# Altium integrated library HSEC8-120-01-S-RA.IntLib: 1 symbol
Pins are listed as number, name and electrical type; pins without a type are passive.

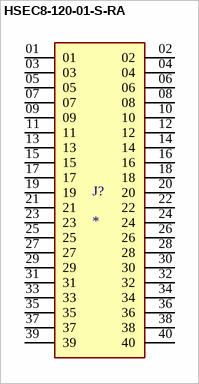
[diagram p0: symbol HSEC8-120-01-S-RA]

## HSEC8-120-01-S-RA
designator J?
MP: HSEC8-120-01-S-RA; Value: *; Package: None; Price: None; Availability: Unavailable
footprint SAMTEC_HSEC8-120-01-S-RA
pins: 01, 02, 03, 04, 05, 06, 07, 08, 09, 10, 11, 12, 13, 14, 15, 16, 17, 18, 19, 20, 21, 22, 23, 24, 25, 26, 27, 28, 29, 30, 31, 32, 33, 34, 35, 36, 37, 38, 39, 40